# EAGLE library part SD-SOCKET (library mbed-microcontroller)
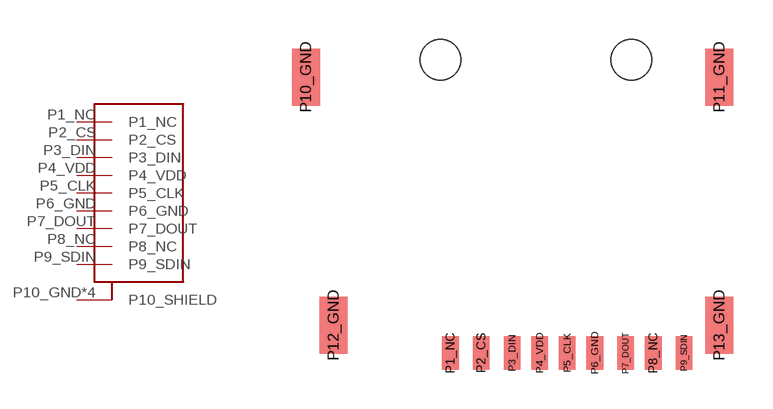
[diagram p5: symbol with the pads of SD-SOCKET; footprint SD-SOCKET]

Designator prefix -

## SD-SOCKET  [SD-SOCKET]
P1_NC  P1_NC
P2_CS  P2_CS
P3_DIN  P3_DIN
P4_VDD  P4_VDD
P5_CLK  P5_CLK
P6_GND  P6_GND
P7_DOUT  P7_DOUT
P8_NC  P8_NC
P9_SDIN  P9_SDIN
P10_GND  P10_SHIELD
P11_GND  P10_SHIELD
P12_GND  P10_SHIELD
P13_GND  P10_SHIELD

## Footprint SD-SOCKET (pad centres in mm)
smd 0.635 x 1.27: P1_NC -5.016,-1.054; P2_CS -3.835,-1.054; P3_DIN -2.654,-1.054; P4_VDD -1.6,-1.054; P5_CLK -0.546,-1.054; P6_GND 0.508,-1.054; P7_DOUT 1.689,-1.054; P8_NC 2.743,-1.054; P9_SDIN 3.924,-1.054
smd 1.067 x 2.184: P10_GND -10.541,9.487; P11_GND 5.271,9.487; P12_GND -9.487,0; P13_GND 5.271,0
hole 1.554 at -5.397,10.16
hole 1.554 at 1.905,10.16